# Altium integrated library Analog Devices Data Converters Digital-to-Analog Converters.IntLib: 2231 symbols (part 129 of 181)
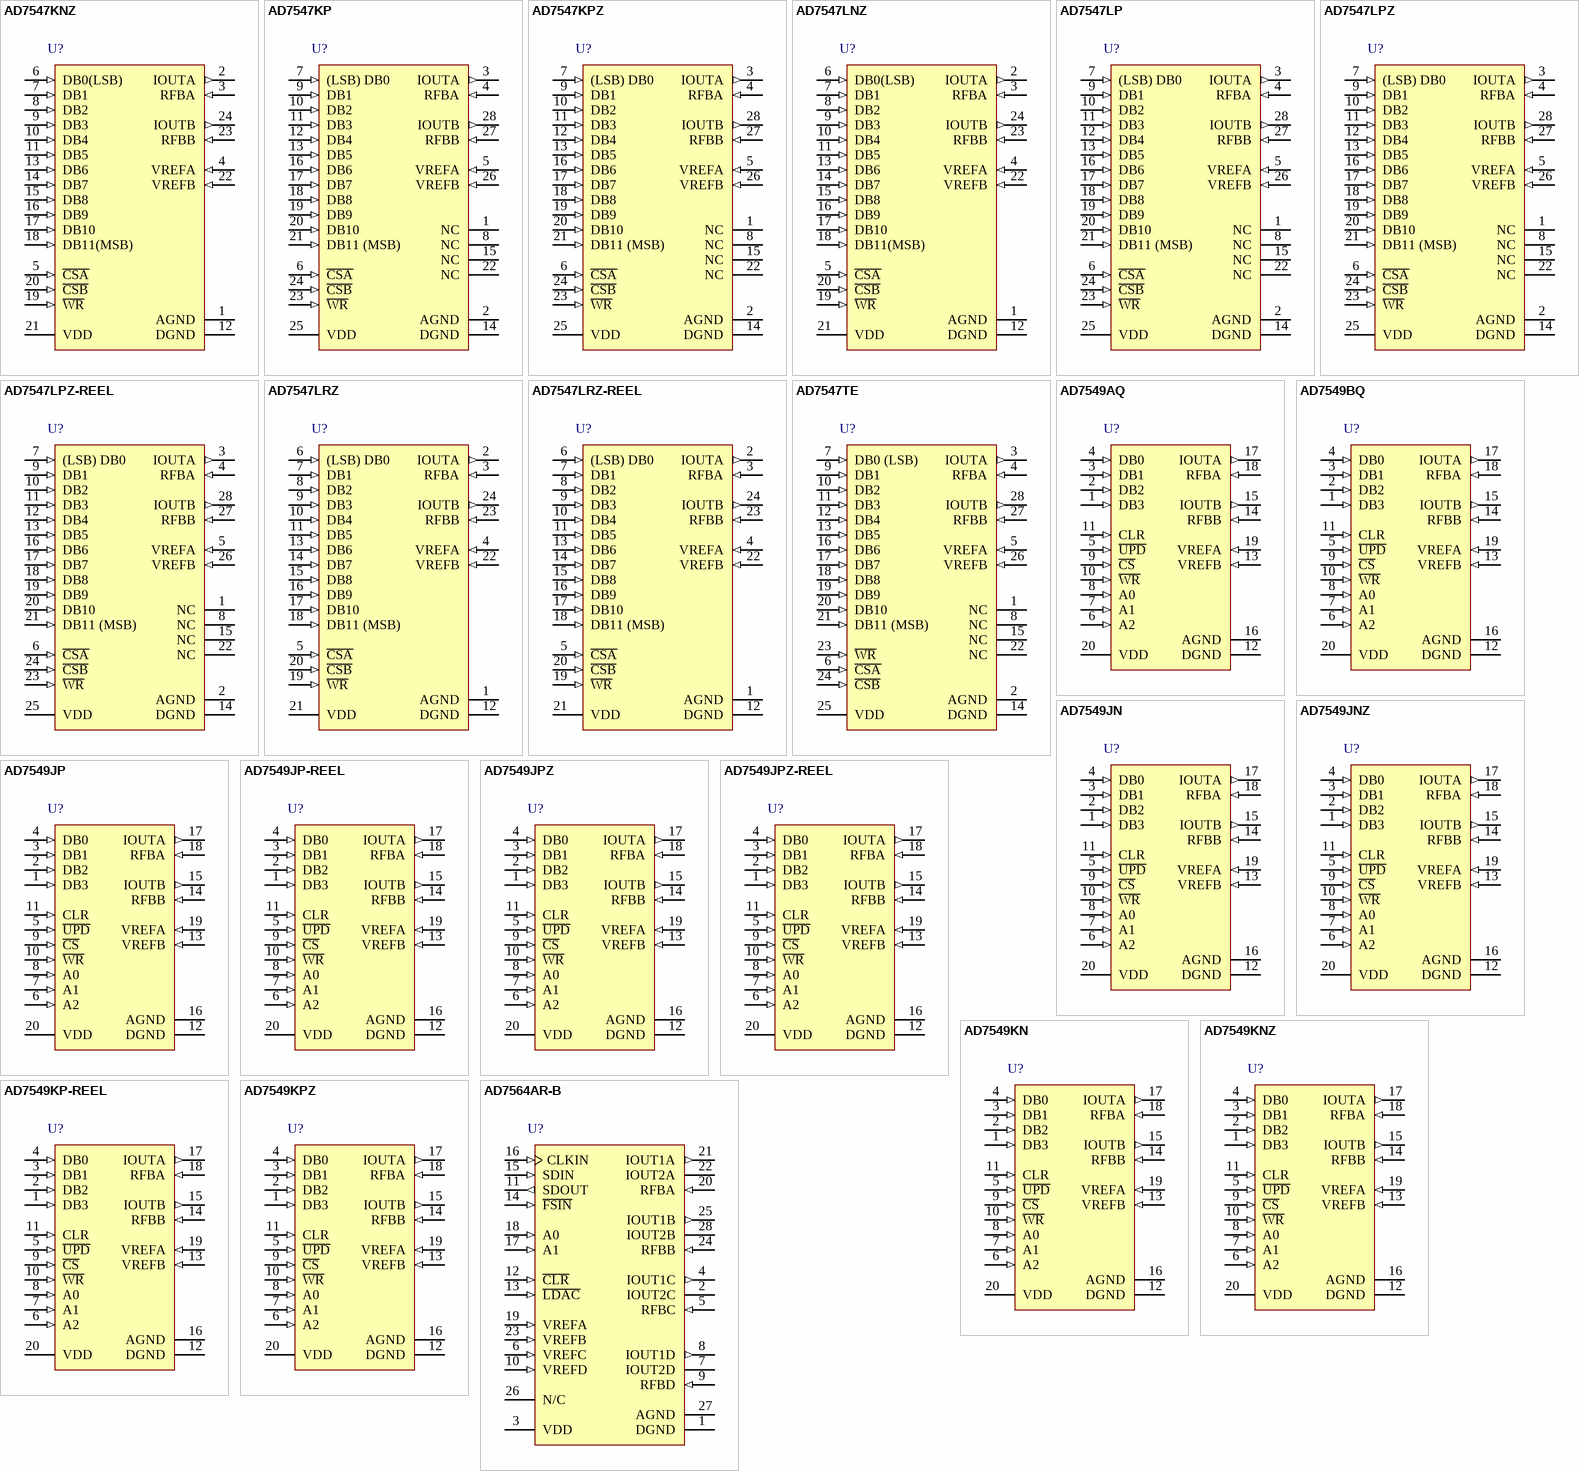
[diagram p242: symbols AD7547KNZ to AD7564AR-B]

## AD7547LRZ
designator U?
Dual 12-Bit LC2MOS Digital-to-Analog Converter with Parallel Loading, 0 to +70 degC, RW-24, Pb-Free, Tube; Generic Part Number: AD7547; Manufacturer: Analog Devices; PartNumber: AD7547LRZ; # DAC Outputs: 2; Max V+: 16.5V; Op Pwr Diss: 30mW; Resolution (Bits): 12; Settling Time: 1.5µs; Single Supply: Yes; DatasheetVersion: Rev.A; PackageVersion: 060706-A; PackageReference: RW-24; PackageDescription: 24-Lead Standard Small Outline Package [SOIC_W]; Supplier 1: Digi-Key; Supplier Part Number 1: AD7547LRZ-ND; Supplier 2: Mouser; Supplier Part Number 2: 584-AD7547LRZ; Packing: Tube; RoHS: Y; Mounting Technology: Surface Mount; Code_JEDEC: MS-013-AD; ComponentLink1Description: Manufacturer URL; ComponentLink1URL: http://www.analog.com/en/index.html; ComponentLink2Description: Datasheet; ComponentLink2URL: http://www.analog.com/static/imported-files/data_sheets/AD7547.pdf; ComponentLink3Description: Package Specification; ComponentLink3URL: http://www.analog.com/static/imported-files/packages/33665150946139RW_24.pdf; ComponentLink4Description: Product URL; ComponentLink4URL: http://www.analog.com/en/digital-to-analog-converters/da-converters/ad7547/products/product.html
footprint RW-24_N (SOIC, 24-Leads, Body 15.4x7.5mm, Pitch 1.27mm, IPC Medium Density)
footprint RW-24_L (SOIC, 24-Leads, Body 15.4x7.5mm, Pitch 1.27mm, IPC High Density)
footprint RW-24_M (SOIC, 24-Leads, Body 15.4x7.5mm, Pitch 1.27mm, IPC Low Density)
pins: 1 AGND (power) "Analog Ground.", 2 IOUTA (out) "Current output terminal of DACA.", 3 RFBA (in) "Feedback resistor for DACA.", 4 VREFA (in) "Reference input to DACA.", 5 ~{CSA} (in) "Chip Select Input for DACA. Active low.", 6 (LSB) DB0 (in) "Data input.", 7 DB1 (in) "Data input.", 8 DB2 (in) "Data input.", 9 DB3 (in) "Data input.", 10 DB4 (in) "Data input.", 11 DB5 (in) "Data input.", 12 DGND (power) "Digital Ground.", 13 DB6 (in) "Data input.", 14 DB7 (in) "Data input.", 15 DB8 (in) "Data input.", 16 DB9 (in) "Data input.", 17 DB10 (in) "Data input.", 18 DB11 (MSB) (in) "Data input.", 19 ~{WR} (in) "Write Input. Data transfer occurs on rising edge of W\R\. See Table I.", 20 ~{CSB} (in) "Chip Select Input for DACB. Active low.", 21 VDD (power) "Power supply input. Nominally +12V to +15V with + / -10% tolerance.", 22 VREFB (in) "Reference input to DACB.", 23 RFBB (in) "Feedback resistor of DACB.", 24 IOUTB (out) "Current output terminal of DACB."

## AD7547LRZ-REEL
designator U?
Dual 12-Bit LC2MOS Digital-to-Analog Converter with Parallel Loading, 0 to +70 degC, RW-24, Pb-Free, Reel; Generic Part Number: AD7547; Manufacturer: Analog Devices; PartNumber: AD7547LRZ-REEL; # DAC Outputs: 2; Max V+: 16.5V; Op Pwr Diss: 30mW; Resolution (Bits): 12; Settling Time: 1.5µs; Single Supply: Yes; DatasheetVersion: Rev.A; PackageVersion: 060706-A; PackageReference: RW-24; PackageDescription: 24-Lead Standard Small Outline Package [SOIC_W]; Supplier 1: Digi-Key; Supplier Part Number 1: AD7547LRZ-REEL-ND; Supplier 2: Mouser; Supplier Part Number 2: 584-AD7547LRZ-R; Packing: Reel; RoHS: Y; Mounting Technology: Surface Mount; Code_JEDEC: MS-013-AD; ComponentLink1Description: Manufacturer URL; ComponentLink1URL: http://www.analog.com/en/index.html; ComponentLink2Description: Datasheet; ComponentLink2URL: http://www.analog.com/static/imported-files/data_sheets/AD7547.pdf; ComponentLink3Description: Package Specification; ComponentLink3URL: http://www.analog.com/static/imported-files/packages/33665150946139RW_24.pdf; ComponentLink4Description: Product URL; ComponentLink4URL: http://www.analog.com/en/digital-to-analog-converters/da-converters/ad7547/products/product.html
footprint RW-24_N (SOIC, 24-Leads, Body 15.4x7.5mm, Pitch 1.27mm, IPC Medium Density)
footprint RW-24_L (SOIC, 24-Leads, Body 15.4x7.5mm, Pitch 1.27mm, IPC High Density)
footprint RW-24_M (SOIC, 24-Leads, Body 15.4x7.5mm, Pitch 1.27mm, IPC Low Density)
pins: 1 AGND (power) "Analog Ground.", 2 IOUTA (out) "Current output terminal of DACA.", 3 RFBA (in) "Feedback resistor for DACA.", 4 VREFA (in) "Reference input to DACA.", 5 ~{CSA} (in) "Chip Select Input for DACA. Active low.", 6 (LSB) DB0 (in) "Data input.", 7 DB1 (in) "Data input.", 8 DB2 (in) "Data input.", 9 DB3 (in) "Data input.", 10 DB4 (in) "Data input.", 11 DB5 (in) "Data input.", 12 DGND (power) "Digital Ground.", 13 DB6 (in) "Data input.", 14 DB7 (in) "Data input.", 15 DB8 (in) "Data input.", 16 DB9 (in) "Data input.", 17 DB10 (in) "Data input.", 18 DB11 (MSB) (in) "Data input.", 19 ~{WR} (in) "Write Input. Data transfer occurs on rising edge of W\R\. See Table I.", 20 ~{CSB} (in) "Chip Select Input for DACB. Active low.", 21 VDD (power) "Power supply input. Nominally +12V to +15V with + / -10% tolerance.", 22 VREFB (in) "Reference input to DACB.", 23 RFBB (in) "Feedback resistor of DACB.", 24 IOUTB (out) "Current output terminal of DACB."

## AD7547TE
designator U?
Dual 12-Bit LC2MOS Digital-to-Analog Converter with Parallel Loading, -55 to +125 degC, E-28-1, Tube; Generic Part Number: AD7547; Manufacturer: Analog Devices; PartNumber: AD7547TE; # DAC Outputs: 2; Max V+: 16.5V; Op Pwr Diss: 30mW; Resolution (Bits): 12; Settling Time: 1.5µs; Single Supply: Yes; DatasheetVersion: Rev.A; PackageVersion: 022106-A; PackageReference: E-28-1; PackageDescription: 28-Terminal Ceramic Leadless Chip Carrier [LCC]; Supplier 1: Mouser; Supplier Part Number 1: N/A; Packing: Tube; RoHS: N; Mounting Technology: Surface Mount; ComponentLink1Description: Manufacturer URL; ComponentLink1URL: http://www.analog.com/en/index.html; ComponentLink2Description: Datasheet; ComponentLink2URL: http://www.analog.com/static/imported-files/data_sheets/AD7547.pdf; ComponentLink3Description: Package Specification; ComponentLink3URL: http://www.analog.com/static/imported-files/packages/PKG_PDF/LCC(E)/E_28_1.pdf; ComponentLink4Description: Product URL; ComponentLink4URL: http://www.analog.com/en/digital-to-analog-converters/da-converters/ad7547/products/product.html
footprint E-28-1_N (Leadless Chip Carrier, 28-Leads, Body 11.4x11.4mm, Pitch 1.27mm, IPC Medium Density)
footprint E-28-1_L (Leadless Chip Carrier, 28-Leads, Body 11.4x11.4mm, Pitch 1.27mm, IPC High Density)
footprint E-28-1_M (Leadless Chip Carrier, 28-Leads, Body 11.4x11.4mm, Pitch 1.27mm, IPC Low Density)
pins: 1 NC "No connect.", 2 AGND (power) "Analog Ground.", 3 IOUTA (out) "Current output terminal of DACA.", 4 RFBA (in) "Feedback resistor for DACA.", 5 VREFA (in) "Reference input to DACA.", 6 ~{CSA} (in) "Chip Select Input for DACA.Active low.", 7 DB0 (LSB) (in) "Data input.", 8 NC "No connect.", 9 DB1 (in) "Data input.", 10 DB2 (in) "Data input.", 11 DB3 (in) "Data input.", 12 DB4 (in) "Data input.", 13 DB5 (in) "Data input.", 14 DGND (power) "Digital Ground.", 15 NC "No connect.", 16 DB6 (in) "Data input.", 17 DB7 (in) "Data input.", 18 DB8 (in) "Data input.", 19 DB9 (in) "Data input.", 20 DB10 (in) "Data input.", 21 DB11 (MSB) (in) "Data input.", 22 NC "No connect.", 23 ~{WR} (in) "Write input.Data transfer occurs on rising edge of W\R\.", 24 ~{CSB} (in) "Chip Select Input for DACB.Active low.", 25 VDD (power) "Power supply input.Nominally +12V to +15V with +/- 10% tolerance.", 26 VREFB (in) "Reference input to DACB.", 27 RFBB (in) "Feedback resistor of DACB.", 28 IOUTB (out) "Current output terminal of DACB."

## AD7549AQ
designator U?
Dual 12-Bit uP-Compatible Digital-to-Analog Converter, -40 to +85 degC, Q-20, Tube; Generic Part Number: AD7549; Manufacturer: Analog Devices; PartNumber: AD7549AQ; # DAC Outputs: 2; Max V+: 15.75V; Op Pwr Diss: 75mW; Resolution (Bits): 12; Settling Time: 1.5µs; Single Supply: Yes; DatasheetVersion: Rev.A; PackageVersion: Dec-2004; PackageReference: Q-20; PackageDescription: 20-Lead Ceramic Dual In-Line Package [CERDIP]; Supplier 1: Digi-Key; Supplier Part Number 1: AD7549AQ-ND; Supplier 2: Mouser; Supplier Part Number 2: 584-AD7549AQ; Packing: Tube; RoHS: N; Mounting Technology: Through Hole; ComponentLink1Description: Manufacturer URL; ComponentLink1URL: http://www.analog.com/en/index.html; ComponentLink2Description: Datasheet; ComponentLink2URL: http://www.analog.com/static/imported-files/data_sheets/AD7549.pdf; ComponentLink3Description: Package Specification; ComponentLink3URL: http://www.analog.com/static/imported-files/packages/50516416473314Q_20.pdf; ComponentLink4Description: Product URL; ComponentLink4URL: http://www.analog.com/en/digital-to-analog-converters/da-converters/ad7549/products/product.html
footprint Q-20 (DIP, 20-Leads, Row Spacing 7.62mm, Pitch 2.54mm, Body 25.9x6.7mm)
pins: 1 DB3 (in) "Data Bit 3, Data Bit 7 or Data Bit 11(MSB)", 2 DB2 (in) "Data Bit 2, Data Bit 6 or Data Bit 10.", 3 DB1 (in) "Data Bit 1, Data Bit 5 or Data Bit 9.", 4 DB0 (in) "Data Bit 0, Data Bit 4 or Data Bit 8.", 5 ~{UPD} (in) "Updates DAC Registers from 4-bit input registers. DAC A and DAC B both updated simultaneously.", 6 A2 (in) "Address line 2.", 7 A1 (in) "Address line 1.", 8 A0 (in) "Address line 0.", 9 ~{CS} (in) "Chip Select Input. Active low.", 10 ~{WR} (in) "Write Input. Active low.", 11 CLR (in) "Clear Input. Active High. Clears all registers.", 12 DGND (power) "Digital Ground.", 13 VREFB (in) "Voltage reference input to DAC B.", 14 RFBB (in) "Feedback resistor of DAC B.", 15 IOUTB (out) "Current output terminal of DAC B.", 16 AGND (power) "Analog ground.", 17 IOUTA (out) "Current output terminal of DAC A.", 18 RFBA (in) "Feedback resistor of DAC A.", 19 VREFA (in) "Voltage reference input to DAC A.", 20 VDD (power) "+15 V supply input."

## AD7549BQ
designator U?
Dual 12-Bit uP-Compatible Digital-to-Analog Converter, -40 to +85 degC, Q-20, Tube; Generic Part Number: AD7549; Manufacturer: Analog Devices; PartNumber: AD7549BQ; # DAC Outputs: 2; Max V+: 15.75V; Op Pwr Diss: 75mW; Resolution (Bits): 12; Settling Time: 1.5µs; Single Supply: Yes; DatasheetVersion: Rev.A; PackageVersion: Dec-2004; PackageReference: Q-20; PackageDescription: 20-Lead Ceramic Dual In-Line Package [CERDIP]; Supplier 1: Digi-Key; Supplier Part Number 1: AD7549BQ-ND; Supplier 2: Mouser; Supplier Part Number 2: 584-AD7549BQ; Packing: Tube; RoHS: N; Mounting Technology: Through Hole; ComponentLink1Description: Manufacturer URL; ComponentLink1URL: http://www.analog.com/en/index.html; ComponentLink2Description: Datasheet; ComponentLink2URL: http://www.analog.com/static/imported-files/data_sheets/AD7549.pdf; ComponentLink3Description: Package Specification; ComponentLink3URL: http://www.analog.com/static/imported-files/packages/50516416473314Q_20.pdf; ComponentLink4Description: Product URL; ComponentLink4URL: http://www.analog.com/en/digital-to-analog-converters/da-converters/ad7549/products/product.html
footprint Q-20 (DIP, 20-Leads, Row Spacing 7.62mm, Pitch 2.54mm, Body 25.9x6.7mm)
pins: 1 DB3 (in) "Data Bit 3, Data Bit 7 or Data Bit 11(MSB)", 2 DB2 (in) "Data Bit 2, Data Bit 6 or Data Bit 10.", 3 DB1 (in) "Data Bit 1, Data Bit 5 or Data Bit 9.", 4 DB0 (in) "Data Bit 0, Data Bit 4 or Data Bit 8.", 5 ~{UPD} (in) "Updates DAC Registers from 4-bit input registers. DAC A and DAC B both updated simultaneously.", 6 A2 (in) "Address line 2.", 7 A1 (in) "Address line 1.", 8 A0 (in) "Address line 0.", 9 ~{CS} (in) "Chip Select Input. Active low.", 10 ~{WR} (in) "Write Input. Active low.", 11 CLR (in) "Clear Input. Active High. Clears all registers.", 12 DGND (power) "Digital Ground.", 13 VREFB (in) "Voltage reference input to DAC B.", 14 RFBB (in) "Feedback resistor of DAC B.", 15 IOUTB (out) "Current output terminal of DAC B.", 16 AGND (power) "Analog ground.", 17 IOUTA (out) "Current output terminal of DAC A.", 18 RFBA (in) "Feedback resistor of DAC A.", 19 VREFA (in) "Voltage reference input to DAC A.", 20 VDD (power) "+15 V supply input."

## AD7549JN
designator U?
Dual 12-Bit uP-Compatible Digital-to-Analog Converter, 0 to +70 degC, N-20, Tube; Generic Part Number: AD7549; Manufacturer: Analog Devices; PartNumber: AD7549JN; # DAC Outputs: 2; Max V+: 15.75V; Op Pwr Diss: 75mW; Resolution (Bits): 12; Settling Time: 1.5µs; Single Supply: Yes; DatasheetVersion: Rev.A; PackageVersion: 070706-A; PackageReference: N-20; PackageDescription: 20-Lead Plastic Dual In-Line Package [PDIP] Narrow Body; Supplier 1: Digi-Key; Supplier Part Number 1: AD7549JN-ND; Supplier 2: Mouser; Supplier Part Number 2: 584-AD7549JN; Packing: Tube; RoHS: N; Mounting Technology: Through Hole; Code_JEDEC: MS-001; ComponentLink1Description: Manufacturer URL; ComponentLink1URL: http://www.analog.com/en/index.html; ComponentLink2Description: Datasheet; ComponentLink2URL: http://www.analog.com/static/imported-files/data_sheets/AD7549.pdf; ComponentLink3Description: Package Specification; ComponentLink3URL: http://www.analog.com/static/imported-files/packages/50601349676519N_20.pdf; ComponentLink4Description: Product URL; ComponentLink4URL: http://www.analog.com/en/digital-to-analog-converters/da-converters/ad7549/products/product.html
footprint N-20 (DIP, 20-Leads, Row Spacing 7.62mm, Pitch 2.54mm, Body 25.9x6.6mm)
pins: 1 DB3 (in) "Data Bit 3,Data Bit 7 or Data Bit 11 (MSB)", 2 DB2 (in) "Data Bit 2,Data Bit 6 or Data Bit 10.", 3 DB1 (in) "Data Bit 1,Data Bit 5 or Data Bit 9.", 4 DB0 (in) "Data Bit 0,Data Bit 4 or Data Bit 8.", 5 ~{UPD} (in) "Updates DAC Registers from 4-bit input registers.DAC A and DAC B both updated simultaneously.", 6 A2 (in) "Address line 2.", 7 A1 (in) "Address line 1.", 8 A0 (in) "Address line 0.", 9 ~{CS} (in) "Chip Sekect Input.Active low.", 10 ~{WR} (in) "Write Input.Active low.", 11 CLR (in) "Clear Input.Active High.Clears all registers.", 12 DGND (power) "Digital Ground.", 13 VREFB (in) "Voltage reference input to DAC B.", 14 RFBB (in) "Feedback resistor of DAC B.", 15 IOUTB (out) "Current output terminal of DAC B.", 16 AGND (power) "Analog ground.", 17 IOUTA (out) "Current output terminal of DAC A.", 18 RFBA (in) "Feedback resistor of DAC A.", 19 VREFA (in) "Voltage reference input to DAC A.", 20 VDD (power) "+15 V supply input."

## AD7549JNZ
designator U?
Dual 12-Bit uP-Compatible Digital-to-Analog Converter, 0 to +70 degC, N-20, Pb-Free, Tube; Generic Part Number: AD7549; Manufacturer: Analog Devices; PartNumber: AD7549JNZ; # DAC Outputs: 2; Max V+: 15.75V; Op Pwr Diss: 75mW; Resolution (Bits): 12; Settling Time: 1.5µs; Single Supply: Yes; DatasheetVersion: Rev.A; PackageVersion: 070706-A; PackageReference: N-20; PackageDescription: 20-Lead Plastic Dual In-Line Package [PDIP] Narrow Body; Supplier 1: Digi-Key; Supplier Part Number 1: AD7549JNZ-ND; Supplier 2: Farnell; Supplier Part Number 2: 1079373; Supplier 3: Newark; Supplier Part Number 3: 59K5042; Supplier 4: Mouser; Supplier Part Number 4: 584-AD7549JNZ; Packing: Tube; RoHS: Y; Mounting Technology: Through Hole; Code_JEDEC: MS-001; ComponentLink1Description: Manufacturer URL; ComponentLink1URL: http://www.analog.com/en/index.html; ComponentLink2Description: Datasheet; ComponentLink2URL: http://www.analog.com/static/imported-files/data_sheets/AD7549.pdf; ComponentLink3Description: Package Specification; ComponentLink3URL: http://www.analog.com/static/imported-files/packages/50601349676519N_20.pdf; ComponentLink4Description: Product URL; ComponentLink4URL: http://www.analog.com/en/digital-to-analog-converters/da-converters/ad7549/products/product.html
footprint N-20 (DIP, 20-Leads, Row Spacing 7.62mm, Pitch 2.54mm, Body 25.9x6.6mm)
pins: 1 DB3 (in) "Data Bit 3,Data Bit 7 or Data Bit 11 (MSB)", 2 DB2 (in) "Data Bit 2,Data Bit 6 or Data Bit 10.", 3 DB1 (in) "Data Bit 1,Data Bit 5 or Data Bit 9.", 4 DB0 (in) "Data Bit 0,Data Bit 4 or Data Bit 8.", 5 ~{UPD} (in) "Updates DAC Registers from 4-bit input registers.DAC A and DAC B both updated simultaneously.", 6 A2 (in) "Address line 2.", 7 A1 (in) "Address line 1.", 8 A0 (in) "Address line 0.", 9 ~{CS} (in) "Chip Sekect Input.Active low.", 10 ~{WR} (in) "Write Input.Active low.", 11 CLR (in) "Clear Input.Active High.Clears all registers.", 12 DGND (power) "Digital Ground.", 13 VREFB (in) "Voltage reference input to DAC B.", 14 RFBB (in) "Feedback resistor of DAC B.", 15 IOUTB (out) "Current output terminal of DAC B.", 16 AGND (power) "Analog ground.", 17 IOUTA (out) "Current output terminal of DAC A.", 18 RFBA (in) "Feedback resistor of DAC A.", 19 VREFA (in) "Voltage reference input to DAC A.", 20 VDD (power) "+15 V supply input."

## AD7549JP
designator U?
Dual 12-Bit uP-Compatible Digital-to-Analog Converter, 0 to +70 degC, P-20A, Tube; Generic Part Number: AD7549; Manufacturer: Analog Devices; PartNumber: AD7549JP; # DAC Outputs: 2; Max V+: 15.75V; Op Pwr Diss: 75mW; Resolution (Bits): 12; Settling Time: 1.5µs; Single Supply: Yes; DatasheetVersion: Rev.A; PackageVersion: Nov-2002; PackageReference: P-20A; PackageDescription: 20-Lead Plastic Leaded Chip Carrier [PLCC]; Supplier 1: Digi-Key; Supplier Part Number 1: AD7549JP-ND; Supplier 2: Mouser; Supplier Part Number 2: 584-AD7549JP; Packing: Tube; RoHS: N; Mounting Technology: Surface Mount; Code_JEDEC: MO-047-AA; ComponentLink1Description: Manufacturer URL; ComponentLink1URL: http://www.analog.com/en/index.html; ComponentLink2Description: Datasheet; ComponentLink2URL: http://www.analog.com/static/imported-files/data_sheets/AD7549.pdf; ComponentLink3Description: Package Specification; ComponentLink3URL: http://www.analog.com/static/imported-files/packages/3121431516544404277643669223804694P20A.pdf; ComponentLink4Description: Product URL; ComponentLink4URL: http://www.analog.com/en/digital-to-analog-converters/da-converters/ad7549/products/product.html
footprint P-20A_N (Leaded Chip Carrier, 20-Leads, Body 9x9mm, Pitch 1.27mm, IPC Medium Density)
footprint P-20A_L (Leaded Chip Carrier, 20-Leads, Body 9x9mm, Pitch 1.27mm, IPC High Density)
footprint P-20A_M (Leaded Chip Carrier, 20-Leads, Body 9x9mm, Pitch 1.27mm, IPC Low Density)
pins: 1 DB3 (in) "Data Bit 3, Data Bit 7 or Data Bit 11(MSB)", 2 DB2 (in) "Data Bit 2, Data Bit 6 or Data Bit 10.", 3 DB1 (in) "Data Bit 1, Data Bit 5 or Data Bit 9.", 4 DB0 (in) "Data Bit 0, Data Bit 4 or Data Bit 8.", 5 ~{UPD} (in) "Updates DAC Registers from 4-bit input registers. DAC A and DAC B both updated simultaneously.", 6 A2 (in) "Address line 2.", 7 A1 (in) "Address line 1.", 8 A0 (in) "Address line 0.", 9 ~{CS} (in) "Chip Select Input. Active low.", 10 ~{WR} (in) "Write Input. Active low.", 11 CLR (in) "Clear Input. Active High. Clears all registers.", 12 DGND (power) "Digital Ground.", 13 VREFB (in) "Voltage reference input to DAC B.", 14 RFBB (in) "Feedback resistor of DAC B.", 15 IOUTB (out) "Current output terminal of DAC B.", 16 AGND (power) "Analog ground.", 17 IOUTA (out) "Current output terminal of DAC A.", 18 RFBA (in) "Feedback resistor of DAC A.", 19 VREFA (in) "Voltage reference input to DAC A.", 20 VDD (power) "+15 V supply input."

## AD7549JP-REEL
designator U?
Dual 12-Bit uP-Compatible Digital-to-Analog Converter, 0 to +70 degC, P-20A, Reel; Generic Part Number: AD7549; Manufacturer: Analog Devices; PartNumber: AD7549JP-REEL; # DAC Outputs: 2; Max V+: 15.75V; Op Pwr Diss: 75mW; Resolution (Bits): 12; Settling Time: 1.5µs; Single Supply: Yes; DatasheetVersion: Rev.A; PackageVersion: Nov-2002; PackageReference: P-20A; PackageDescription: 20-Lead Plastic Leaded Chip Carrier [PLCC]; Supplier 1: Mouser; Supplier Part Number 1: N/A; Packing: Reel; RoHS: N; Mounting Technology: Surface Mount; Code_JEDEC: MO-047-AA; ComponentLink1Description: Manufacturer URL; ComponentLink1URL: http://www.analog.com/en/index.html; ComponentLink2Description: Datasheet; ComponentLink2URL: http://www.analog.com/static/imported-files/data_sheets/AD7549.pdf; ComponentLink3Description: Package Specification; ComponentLink3URL: http://www.analog.com/static/imported-files/packages/3121431516544404277643669223804694P20A.pdf; ComponentLink4Description: Product URL; ComponentLink4URL: http://www.analog.com/en/digital-to-analog-converters/da-converters/ad7549/products/product.html
footprint P-20A_N (Leaded Chip Carrier, 20-Leads, Body 9x9mm, Pitch 1.27mm, IPC Medium Density)
footprint P-20A_L (Leaded Chip Carrier, 20-Leads, Body 9x9mm, Pitch 1.27mm, IPC High Density)
footprint P-20A_M (Leaded Chip Carrier, 20-Leads, Body 9x9mm, Pitch 1.27mm, IPC Low Density)
pins: 1 DB3 (in) "Data Bit 3, Data Bit 7 or Data Bit 11(MSB)", 2 DB2 (in) "Data Bit 2, Data Bit 6 or Data Bit 10.", 3 DB1 (in) "Data Bit 1, Data Bit 5 or Data Bit 9.", 4 DB0 (in) "Data Bit 0, Data Bit 4 or Data Bit 8.", 5 ~{UPD} (in) "Updates DAC Registers from 4-bit input registers. DAC A and DAC B both updated simultaneously.", 6 A2 (in) "Address line 2.", 7 A1 (in) "Address line 1.", 8 A0 (in) "Address line 0.", 9 ~{CS} (in) "Chip Select Input. Active low.", 10 ~{WR} (in) "Write Input. Active low.", 11 CLR (in) "Clear Input. Active High. Clears all registers.", 12 DGND (power) "Digital Ground.", 13 VREFB (in) "Voltage reference input to DAC B.", 14 RFBB (in) "Feedback resistor of DAC B.", 15 IOUTB (out) "Current output terminal of DAC B.", 16 AGND (power) "Analog ground.", 17 IOUTA (out) "Current output terminal of DAC A.", 18 RFBA (in) "Feedback resistor of DAC A.", 19 VREFA (in) "Voltage reference input to DAC A.", 20 VDD (power) "+15 V supply input."

## AD7549JPZ
designator U?
Dual 12-Bit uP-Compatible Digital-to-Analog Converter, 0 to +70 degC, P-20A, Pb-Free, Tube; Generic Part Number: AD7549; Manufacturer: Analog Devices; PartNumber: AD7549JPZ; # DAC Outputs: 2; Max V+: 15.75V; Op Pwr Diss: 75mW; Resolution (Bits): 12; Settling Time: 1.5µs; Single Supply: Yes; DatasheetVersion: Rev.A; PackageVersion: Nov-2002; PackageReference: P-20A; PackageDescription: 20-Lead Plastic Leaded Chip Carrier [PLCC]; Supplier 1: Digi-Key; Supplier Part Number 1: AD7549JPZ-ND; Supplier 2: Newark; Supplier Part Number 2: 59K5043; Supplier 3: Mouser; Supplier Part Number 3: 584-AD7549JPZ; Packing: Tube; RoHS: Y; Mounting Technology: Surface Mount; Code_JEDEC: MO-047-AA; ComponentLink1Description: Manufacturer URL; ComponentLink1URL: http://www.analog.com/en/index.html; ComponentLink2Description: Datasheet; ComponentLink2URL: http://www.analog.com/static/imported-files/data_sheets/AD7549.pdf; ComponentLink3Description: Package Specification; ComponentLink3URL: http://www.analog.com/static/imported-files/packages/3121431516544404277643669223804694P20A.pdf; ComponentLink4Description: Product URL; ComponentLink4URL: http://www.analog.com/en/digital-to-analog-converters/da-converters/ad7549/products/product.html
footprint P-20A_N (Leaded Chip Carrier, 20-Leads, Body 9x9mm, Pitch 1.27mm, IPC Medium Density)
footprint P-20A_L (Leaded Chip Carrier, 20-Leads, Body 9x9mm, Pitch 1.27mm, IPC High Density)
footprint P-20A_M (Leaded Chip Carrier, 20-Leads, Body 9x9mm, Pitch 1.27mm, IPC Low Density)
pins: 1 DB3 (in) "Data Bit 3, Data Bit 7 or Data Bit 11(MSB)", 2 DB2 (in) "Data Bit 2, Data Bit 6 or Data Bit 10.", 3 DB1 (in) "Data Bit 1, Data Bit 5 or Data Bit 9.", 4 DB0 (in) "Data Bit 0, Data Bit 4 or Data Bit 8.", 5 ~{UPD} (in) "Updates DAC Registers from 4-bit input registers. DAC A and DAC B both updated simultaneously.", 6 A2 (in) "Address line 2.", 7 A1 (in) "Address line 1.", 8 A0 (in) "Address line 0.", 9 ~{CS} (in) "Chip Select Input. Active low.", 10 ~{WR} (in) "Write Input. Active low.", 11 CLR (in) "Clear Input. Active High. Clears all registers.", 12 DGND (power) "Digital Ground.", 13 VREFB (in) "Voltage reference input to DAC B.", 14 RFBB (in) "Feedback resistor of DAC B.", 15 IOUTB (out) "Current output terminal of DAC B.", 16 AGND (power) "Analog ground.", 17 IOUTA (out) "Current output terminal of DAC A.", 18 RFBA (in) "Feedback resistor of DAC A.", 19 VREFA (in) "Voltage reference input to DAC A.", 20 VDD (power) "+15 V supply input."

## AD7549JPZ-REEL
designator U?
Dual 12-Bit uP-Compatible Digital-to-Analog Converter, 0 to +70 degC, P-20A, Pb-Free, Reel; Generic Part Number: AD7549; Manufacturer: Analog Devices; PartNumber: AD7549JPZ-REEL; # DAC Outputs: 2; Max V+: 15.75V; Op Pwr Diss: 75mW; Resolution (Bits): 12; Settling Time: 1.5µs; Single Supply: Yes; DatasheetVersion: Rev.A; PackageVersion: Nov-2002; PackageReference: P-20A; PackageDescription: 20-Lead Plastic Leaded Chip Carrier [PLCC]; Supplier 1: Digi-Key; Supplier Part Number 1: AD7549JPZ-REEL-ND; Supplier 2: Newark; Supplier Part Number 2: 74R5982; Supplier 3: Mouser; Supplier Part Number 3: 584-AD7549JPZ-R; Packing: Reel; RoHS: Y; Mounting Technology: Surface Mount; Code_JEDEC: MO-047-AA; ComponentLink1Description: Manufacturer URL; ComponentLink1URL: http://www.analog.com/en/index.html; ComponentLink2Description: Datasheet; ComponentLink2URL: http://www.analog.com/static/imported-files/data_sheets/AD7549.pdf; ComponentLink3Description: Package Specification; ComponentLink3URL: http://www.analog.com/static/imported-files/packages/3121431516544404277643669223804694P20A.pdf; ComponentLink4Description: Product URL; ComponentLink4URL: http://www.analog.com/en/digital-to-analog-converters/da-converters/ad7549/products/product.html
footprint P-20A_N (Leaded Chip Carrier, 20-Leads, Body 9x9mm, Pitch 1.27mm, IPC Medium Density)
footprint P-20A_L (Leaded Chip Carrier, 20-Leads, Body 9x9mm, Pitch 1.27mm, IPC High Density)
footprint P-20A_M (Leaded Chip Carrier, 20-Leads, Body 9x9mm, Pitch 1.27mm, IPC Low Density)
pins: 1 DB3 (in) "Data Bit 3, Data Bit 7 or Data Bit 11(MSB)", 2 DB2 (in) "Data Bit 2, Data Bit 6 or Data Bit 10.", 3 DB1 (in) "Data Bit 1, Data Bit 5 or Data Bit 9.", 4 DB0 (in) "Data Bit 0, Data Bit 4 or Data Bit 8.", 5 ~{UPD} (in) "Updates DAC Registers from 4-bit input registers. DAC A and DAC B both updated simultaneously.", 6 A2 (in) "Address line 2.", 7 A1 (in) "Address line 1.", 8 A0 (in) "Address line 0.", 9 ~{CS} (in) "Chip Select Input. Active low.", 10 ~{WR} (in) "Write Input. Active low.", 11 CLR (in) "Clear Input. Active High. Clears all registers.", 12 DGND (power) "Digital Ground.", 13 VREFB (in) "Voltage reference input to DAC B.", 14 RFBB (in) "Feedback resistor of DAC B.", 15 IOUTB (out) "Current output terminal of DAC B.", 16 AGND (power) "Analog ground.", 17 IOUTA (out) "Current output terminal of DAC A.", 18 RFBA (in) "Feedback resistor of DAC A.", 19 VREFA (in) "Voltage reference input to DAC A.", 20 VDD (power) "+15 V supply input."

## AD7549KN
designator U?
Dual 12-Bit uP-Compatible Digital-to-Analog Converter, 0 to +70 degC, N-20, Tube; Generic Part Number: AD7549; Manufacturer: Analog Devices; PartNumber: AD7549KN; # DAC Outputs: 2; Max V+: 15.75V; Op Pwr Diss: 75mW; Resolution (Bits): 12; Settling Time: 1.5µs; Single Supply: Yes; DatasheetVersion: Rev.A; PackageVersion: 070706-A; PackageReference: N-20; PackageDescription: 20-Lead Plastic Dual In-Line Package [PDIP] Narrow Body; Supplier 1: Digi-Key; Supplier Part Number 1: AD7549KN-ND; Supplier 2: Mouser; Supplier Part Number 2: 584-AD7549KN; Packing: Tube; RoHS: N; Mounting Technology: Through Hole; Code_JEDEC: MS-001; ComponentLink1Description: Manufacturer URL; ComponentLink1URL: http://www.analog.com/en/index.html; ComponentLink2Description: Datasheet; ComponentLink2URL: http://www.analog.com/static/imported-files/data_sheets/AD7549.pdf; ComponentLink3Description: Package Specification; ComponentLink3URL: http://www.analog.com/static/imported-files/packages/50601349676519N_20.pdf; ComponentLink4Description: Product URL; ComponentLink4URL: http://www.analog.com/en/digital-to-analog-converters/da-converters/ad7549/products/product.html
footprint N-20 (DIP, 20-Leads, Row Spacing 7.62mm, Pitch 2.54mm, Body 25.9x6.6mm)
pins: 1 DB3 (in) "Data Bit 3,Data Bit 7 or Data Bit 11 (MSB)", 2 DB2 (in) "Data Bit 2,Data Bit 6 or Data Bit 10.", 3 DB1 (in) "Data Bit 1,Data Bit 5 or Data Bit 9.", 4 DB0 (in) "Data Bit 0,Data Bit 4 or Data Bit 8.", 5 ~{UPD} (in) "Updates DAC Registers from 4-bit input registers.DAC A and DAC B both updated simultaneously.", 6 A2 (in) "Address line 2.", 7 A1 (in) "Address line 1.", 8 A0 (in) "Address line 0.", 9 ~{CS} (in) "Chip Sekect Input.Active low.", 10 ~{WR} (in) "Write Input.Active low.", 11 CLR (in) "Clear Input.Active High.Clears all registers.", 12 DGND (power) "Digital Ground.", 13 VREFB (in) "Voltage reference input to DAC B.", 14 RFBB (in) "Feedback resistor of DAC B.", 15 IOUTB (out) "Current output terminal of DAC B.", 16 AGND (power) "Analog ground.", 17 IOUTA (out) "Current output terminal of DAC A.", 18 RFBA (in) "Feedback resistor of DAC A.", 19 VREFA (in) "Voltage reference input to DAC A.", 20 VDD (power) "+15 V supply input."

## AD7549KNZ
designator U?
Dual 12-Bit uP-Compatible Digital-to-Analog Converter, 0 to +70 degC, N-20, Pb-Free, Tube; Generic Part Number: AD7549; Manufacturer: Analog Devices; PartNumber: AD7549KNZ; # DAC Outputs: 2; Max V+: 15.75V; Op Pwr Diss: 75mW; Resolution (Bits): 12; Settling Time: 1.5µs; Single Supply: Yes; DatasheetVersion: Rev.A; PackageVersion: 070706-A; PackageReference: N-20; PackageDescription: 20-Lead Plastic Dual In-Line Package [PDIP] Narrow Body; Supplier 1: Digi-Key; Supplier Part Number 1: AD7549KNZ-ND; Supplier 2: Newark; Supplier Part Number 2: 59K5044; Supplier 3: Mouser; Supplier Part Number 3: 584-AD7549KNZ; Packing: Tube; RoHS: Y; Mounting Technology: Through Hole; Code_JEDEC: MS-001; ComponentLink1Description: Manufacturer URL; ComponentLink1URL: http://www.analog.com/en/index.html; ComponentLink2Description: Datasheet; ComponentLink2URL: http://www.analog.com/static/imported-files/data_sheets/AD7549.pdf; ComponentLink3Description: Package Specification; ComponentLink3URL: http://www.analog.com/static/imported-files/packages/50601349676519N_20.pdf; ComponentLink4Description: Product URL; ComponentLink4URL: http://www.analog.com/en/digital-to-analog-converters/da-converters/ad7549/products/product.html
footprint N-20 (DIP, 20-Leads, Row Spacing 7.62mm, Pitch 2.54mm, Body 25.9x6.6mm)
pins: 1 DB3 (in) "Data Bit 3,Data Bit 7 or Data Bit 11 (MSB)", 2 DB2 (in) "Data Bit 2,Data Bit 6 or Data Bit 10.", 3 DB1 (in) "Data Bit 1,Data Bit 5 or Data Bit 9.", 4 DB0 (in) "Data Bit 0,Data Bit 4 or Data Bit 8.", 5 ~{UPD} (in) "Updates DAC Registers from 4-bit input registers.DAC A and DAC B both updated simultaneously.", 6 A2 (in) "Address line 2.", 7 A1 (in) "Address line 1.", 8 A0 (in) "Address line 0.", 9 ~{CS} (in) "Chip Sekect Input.Active low.", 10 ~{WR} (in) "Write Input.Active low.", 11 CLR (in) "Clear Input.Active High.Clears all registers.", 12 DGND (power) "Digital Ground.", 13 VREFB (in) "Voltage reference input to DAC B.", 14 RFBB (in) "Feedback resistor of DAC B.", 15 IOUTB (out) "Current output terminal of DAC B.", 16 AGND (power) "Analog ground.", 17 IOUTA (out) "Current output terminal of DAC A.", 18 RFBA (in) "Feedback resistor of DAC A.", 19 VREFA (in) "Voltage reference input to DAC A.", 20 VDD (power) "+15 V supply input."

## AD7549KP-REEL
designator U?
Dual 12-Bit uP-Compatible Digital-to-Analog Converter, 0 to +70 degC, P-20A, Reel; Generic Part Number: AD7549; Manufacturer: Analog Devices; PartNumber: AD7549KP-REEL; # DAC Outputs: 2; Max V+: 15.75V; Op Pwr Diss: 75mW; Resolution (Bits): 12; Settling Time: 1.5µs; Single Supply: Yes; DatasheetVersion: Rev.A; PackageVersion: Nov-2002; PackageReference: P-20A; PackageDescription: 20-Lead Plastic Leaded Chip Carrier [PLCC]; Supplier 1: Mouser; Supplier Part Number 1: N/A; Packing: Reel; RoHS: N; Mounting Technology: Surface Mount; Code_JEDEC: MO-047-AA; ComponentLink1Description: Manufacturer URL; ComponentLink1URL: http://www.analog.com/en/index.html; ComponentLink2Description: Datasheet; ComponentLink2URL: http://www.analog.com/static/imported-files/data_sheets/AD7549.pdf; ComponentLink3Description: Package Specification; ComponentLink3URL: http://www.analog.com/static/imported-files/packages/3121431516544404277643669223804694P20A.pdf; ComponentLink4Description: Product URL; ComponentLink4URL: http://www.analog.com/en/digital-to-analog-converters/da-converters/ad7549/products/product.html
footprint P-20A_N (Leaded Chip Carrier, 20-Leads, Body 9x9mm, Pitch 1.27mm, IPC Medium Density)
footprint P-20A_L (Leaded Chip Carrier, 20-Leads, Body 9x9mm, Pitch 1.27mm, IPC High Density)
footprint P-20A_M (Leaded Chip Carrier, 20-Leads, Body 9x9mm, Pitch 1.27mm, IPC Low Density)
pins: 1 DB3 (in) "Data Bit 3, Data Bit 7 or Data Bit 11(MSB)", 2 DB2 (in) "Data Bit 2, Data Bit 6 or Data Bit 10.", 3 DB1 (in) "Data Bit 1, Data Bit 5 or Data Bit 9.", 4 DB0 (in) "Data Bit 0, Data Bit 4 or Data Bit 8.", 5 ~{UPD} (in) "Updates DAC Registers from 4-bit input registers. DAC A and DAC B both updated simultaneously.", 6 A2 (in) "Address line 2.", 7 A1 (in) "Address line 1.", 8 A0 (in) "Address line 0.", 9 ~{CS} (in) "Chip Select Input. Active low.", 10 ~{WR} (in) "Write Input. Active low.", 11 CLR (in) "Clear Input. Active High. Clears all registers.", 12 DGND (power) "Digital Ground.", 13 VREFB (in) "Voltage reference input to DAC B.", 14 RFBB (in) "Feedback resistor of DAC B.", 15 IOUTB (out) "Current output terminal of DAC B.", 16 AGND (power) "Analog ground.", 17 IOUTA (out) "Current output terminal of DAC A.", 18 RFBA (in) "Feedback resistor of DAC A.", 19 VREFA (in) "Voltage reference input to DAC A.", 20 VDD (power) "+15 V supply input."

## AD7549KPZ
designator U?
Dual 12-Bit uP-Compatible Digital-to-Analog Converter, 0 to +70 degC, P-20A, Pb-Free, Tube; Generic Part Number: AD7549; Manufacturer: Analog Devices; PartNumber: AD7549KPZ; # DAC Outputs: 2; Max V+: 15.75V; Op Pwr Diss: 75mW; Resolution (Bits): 12; Settling Time: 1.5µs; Single Supply: Yes; DatasheetVersion: Rev.A; PackageVersion: Nov-2002; PackageReference: P-20A; PackageDescription: 20-Lead Plastic Leaded Chip Carrier [PLCC]; Supplier 1: Digi-Key; Supplier Part Number 1: AD7549KPZ-ND; Supplier 2: Mouser; Supplier Part Number 2: 584-AD7549KPZ; Packing: Tube; RoHS: Y; Mounting Technology: Surface Mount; Code_JEDEC: MO-047-AA; ComponentLink1Description: Manufacturer URL; ComponentLink1URL: http://www.analog.com/en/index.html; ComponentLink2Description: Datasheet; ComponentLink2URL: http://www.analog.com/static/imported-files/data_sheets/AD7549.pdf; ComponentLink3Description: Package Specification; ComponentLink3URL: http://www.analog.com/static/imported-files/packages/3121431516544404277643669223804694P20A.pdf; ComponentLink4Description: Product URL; ComponentLink4URL: http://www.analog.com/en/digital-to-analog-converters/da-converters/ad7549/products/product.html
footprint P-20A_N (Leaded Chip Carrier, 20-Leads, Body 9x9mm, Pitch 1.27mm, IPC Medium Density)
footprint P-20A_L (Leaded Chip Carrier, 20-Leads, Body 9x9mm, Pitch 1.27mm, IPC High Density)
footprint P-20A_M (Leaded Chip Carrier, 20-Leads, Body 9x9mm, Pitch 1.27mm, IPC Low Density)
pins: 1 DB3 (in) "Data Bit 3, Data Bit 7 or Data Bit 11(MSB)", 2 DB2 (in) "Data Bit 2, Data Bit 6 or Data Bit 10.", 3 DB1 (in) "Data Bit 1, Data Bit 5 or Data Bit 9.", 4 DB0 (in) "Data Bit 0, Data Bit 4 or Data Bit 8.", 5 ~{UPD} (in) "Updates DAC Registers from 4-bit input registers. DAC A and DAC B both updated simultaneously.", 6 A2 (in) "Address line 2.", 7 A1 (in) "Address line 1.", 8 A0 (in) "Address line 0.", 9 ~{CS} (in) "Chip Select Input. Active low.", 10 ~{WR} (in) "Write Input. Active low.", 11 CLR (in) "Clear Input. Active High. Clears all registers.", 12 DGND (power) "Digital Ground.", 13 VREFB (in) "Voltage reference input to DAC B.", 14 RFBB (in) "Feedback resistor of DAC B.", 15 IOUTB (out) "Current output terminal of DAC B.", 16 AGND (power) "Analog ground.", 17 IOUTA (out) "Current output terminal of DAC A.", 18 RFBA (in) "Feedback resistor of DAC A.", 19 VREFA (in) "Voltage reference input to DAC A.", 20 VDD (power) "+15 V supply input."

## AD7564AR-B
designator U?
Quad 12-Bit Low Power Digital-to-Analog Converter, 3.3 V / 5 V, 0 to 70 degC, RW-28, Tube; Generic Part Number: AD7564; Manufacturer: Analog Devices; PartNumber: AD7564AR-B; # DAC Outputs: 4; Max V+: 5.5V; Op Pwr Diss: 50µW; Resolution (Bits): 12; Settling Time: 550ns; Single Supply: Yes; DatasheetVersion: Rev.B; PackageVersion: 060706-A; PackageReference: RW-28; PackageDescription: 28-Lead Standard Small Outline Package [SOIC_W]; Supplier 1: Digi-Key; Supplier Part Number 1: AD7564AR-B-ND; Supplier 2: Mouser; Supplier Part Number 2: 584-AD7564AR-B; Packing: Tube; RoHS: N; Mounting Technology: Surface Mount; Code_JEDEC: MS-013-AE; ComponentLink1Description: Manufacturer URL; ComponentLink1URL: http://www.analog.com/en/index.html; ComponentLink2Description: Datasheet; ComponentLink2URL: http://www.analog.com/static/imported-files/data_sheets/AD7564.pdf; ComponentLink3Description: Product URL; ComponentLink3URL: http://www.analog.com/en/digital-to-analog-converters/da-converters/ad7564/products/product.html
footprint RW-28_N (SOIC, 28-Leads, Body 17.9x7.5mm, Pitch 1.27mm, IPC Medium Density)
footprint RW-28_L (SOIC, 28-Leads, Body 17.9x7.5mm, Pitch 1.27mm, IPC High Density)
footprint RW-28_M (SOIC, 28-Leads, Body 17.9x7.5mm, Pitch 1.27mm, IPC Low Density)
pins: 1 DGND (power) "Digital Ground.", 2 IOUT2C "IOUT2 terminal for DAC C. This should normally connect to the signal ground of the system.", 3 VDD (power) "Positive power supply. This is +5 V +/- 5%.", 4 IOUT1C (out) "IOUT1 terminal for DAC C.", 5 RFBC (in) "Feedback resistor for DAC C.", 6 VREFC (in) "DAC C reference input.", 7 IOUT2D "IOUT2 terminal for DAC D. This should normally connect to the signal ground of the system.", 8 IOUT1D (out) "IOUT1 terminal for DAC D.", 9 RFBD (in) "Feedback resistor for DAC D.", 10 VREFD (in) "DAC D reference input.", 11 SDOUT (out) "This shift register output allows multiple devices to be connected in a daisy chain configuration.", 12 ~{CLR} (in) "Asynchronous C\L\R\ input. When this input is taken low, all DAC latches are loaded with all 0s.", 13 ~{LDAC} (in) "Asynchronous L\D\A\C\ input. When this input is taken low, all DAC latches are simultaneously updated with the contents of the input latches.", 14 ~{FSIN} (in) "Level-triggered control input (active low). This is the frame synchronization signal for the input data. When F\S\I\N\ goes low, it enables the input shift register, and data is transferred on the falling edges of CLKIN. If (See Datasheet)", 15 SDIN (in) "Serial data input. The device accepts a 16-bit word. DB0 and DB1 are DAC select bits. DB2 and DB3 are device address bits. DB4 to DB15 contain the 12-bit data to be loaded to the selected DAC.", 16 CLKIN (in) "Clock Input. Data is clocked into the input shift register on the falling edges of CLKIN. Add a pull-down resistor on the clock line to avoid timing issues.", 17 A1 (in) "Device address pin. This input in association with A0 gives the device an address. If DB2 and DB3 of the serial input stream do not correspond to this address, the data which follows is ignored and not loaded to any input (See Datasheet)", 18 A0 (in) "Device address pin. This input in association with A1 gives the device an address.", 19 VREFA (in) "DAC A reference input.", 20 RFBA (in) "Feedback resistor for DAC A.", 21 IOUT1A (out) "IOUT1 terminal for DAC A.", 22 IOUT2A "IOUT2 terminal for DAC A. This should normally connect to the signal ground of the system.", 23 VREFB (in) "DAC B reference input.", 24 RFBB (in) "Feedback resistor for DAC B.", 25 IOUT1B (out) "IOUT1 terminal for DAC B.", 26 N/C "No Connect pin.", 27 AGND (power) "This pin connects to the back gates of the current steering switches. It should be connected to the signal ground of the system.", 28 IOUT2B "IOUT2 terminal for DAC B. This should normally connect to the signal ground of the system."

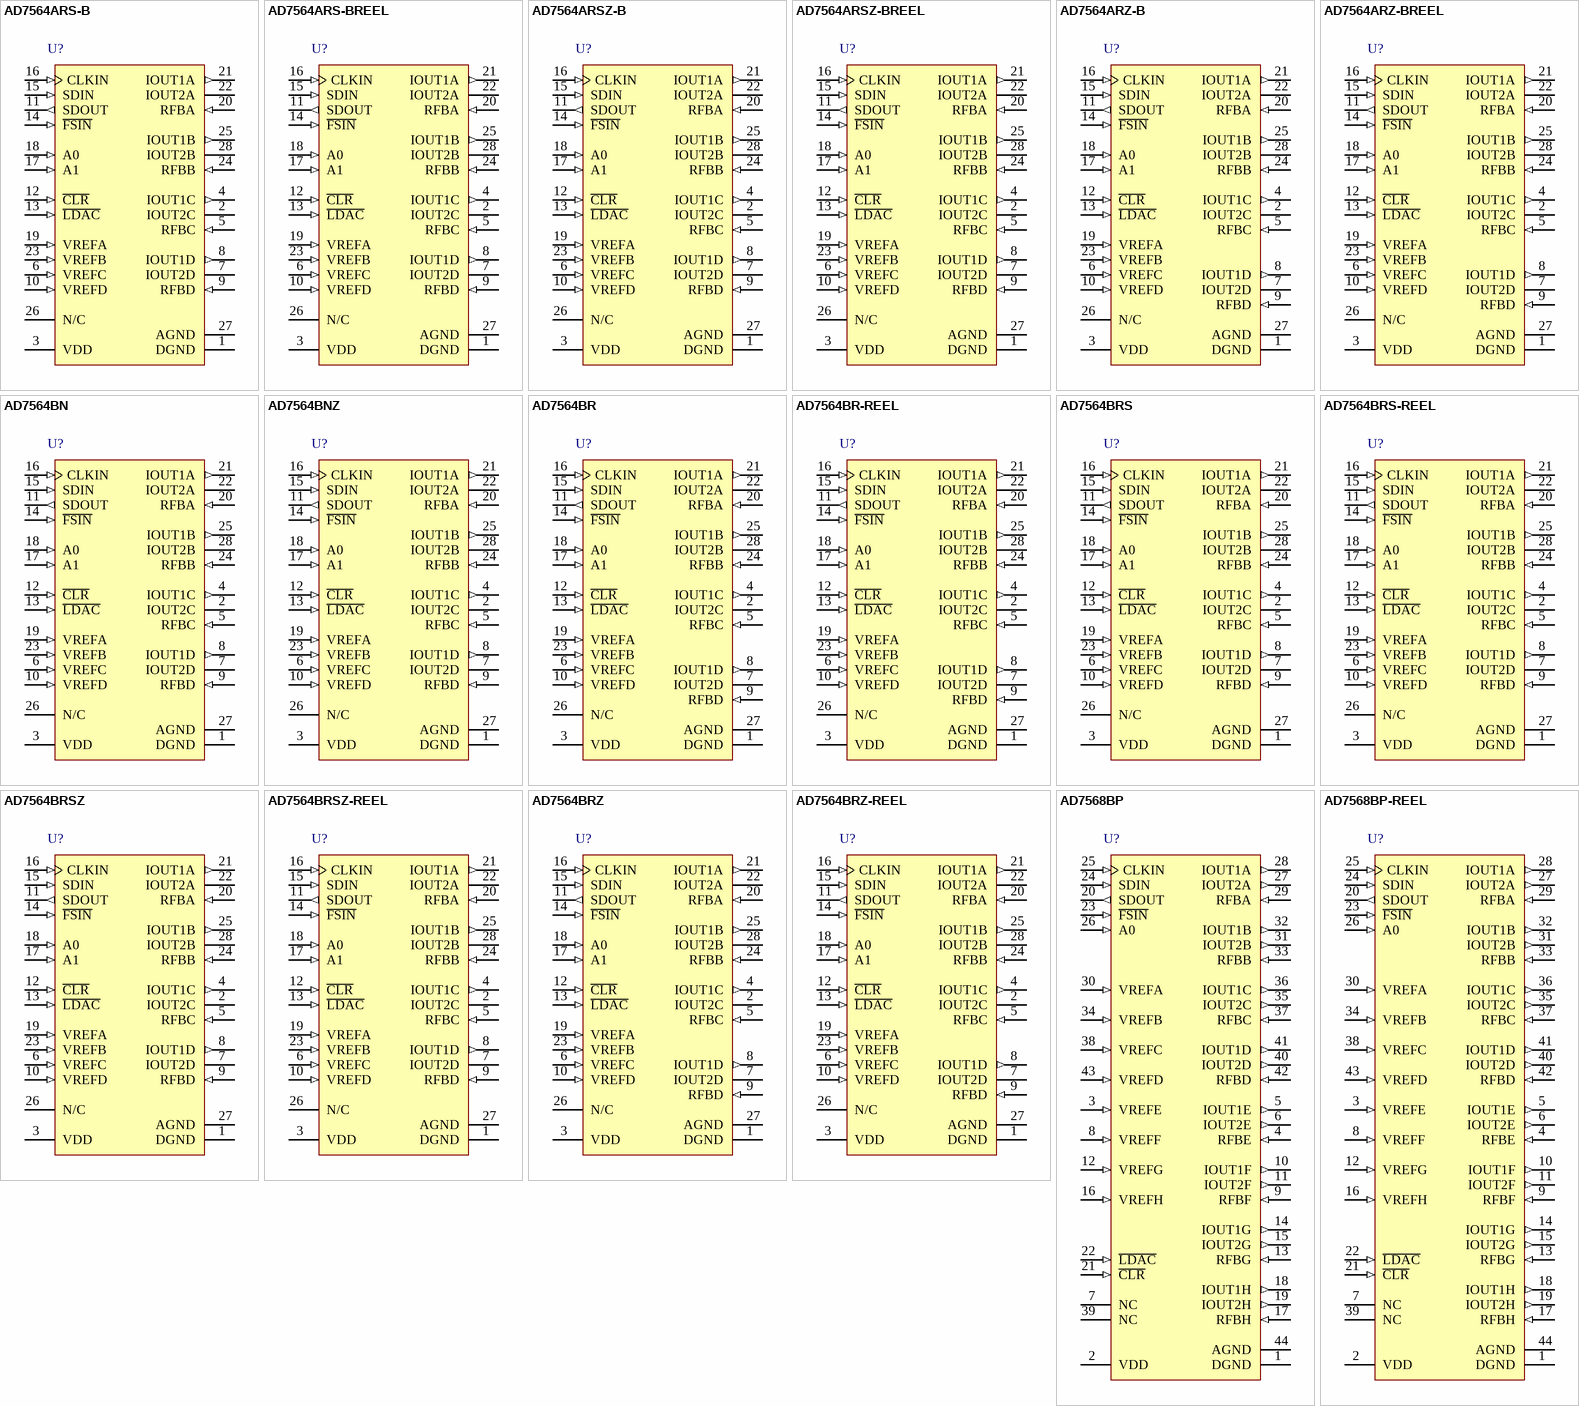
[diagram p71: symbols AD7564ARS-B to AD7568BP-REEL]

## AD7564ARS-B
designator U?
Quad 12-Bit Low Power Digital-to-Analog Converter, 3.3 V / 5 V, -40 to +85 degC, RS-28, Tube; Generic Part Number: AD7564; Manufacturer: Analog Devices; PartNumber: AD7564ARS-B; # DAC Outputs: 4; Max V+: 5.5V; Op Pwr Diss: 50µW; Resolution (Bits): 12; Settling Time: 550ns; Single Supply: Yes; DatasheetVersion: Rev.B; PackageVersion: 060106-A; PackageReference: RS-28; PackageDescription: 28-Lead Shrink Small Outline Package [SSOP]; Supplier 1: Digi-Key; Supplier Part Number 1: AD7564ARS-B-ND; Supplier 2: Mouser; Supplier Part Number 2: 584-AD7564ARS-B; Packing: Tube; RoHS: N; Mounting Technology: Surface Mount; Code_JEDEC: MO-150-AH; ComponentLink1Description: Manufacturer URL; ComponentLink1URL: http://www.analog.com/en/index.html; ComponentLink2Description: Datasheet; ComponentLink2URL: http://www.analog.com/static/imported-files/data_sheets/AD7564.pdf; ComponentLink3Description: Package Specification; ComponentLink3URL: http://www.analog.com/static/imported-files/packages/32122249223724RS_28.pdf; ComponentLink4Description: Product URL; ComponentLink4URL: http://www.analog.com/en/digital-to-analog-converters/da-converters/ad7564/products/product.html
footprint RS-28_N (SOP, 28-Leads, Body 10.2x5.3mm, Pitch 0.65mm, IPC Medium Density)
footprint RS-28_L (SOP, 28-Leads, Body 10.2x5.3mm, Pitch 0.65mm, IPC High Density)
footprint RS-28_M (SOP, 28-Leads, Body 10.2x5.3mm, Pitch 0.65mm, IPC Low Density)
pins: 1 DGND (power) "Digital Ground.", 2 IOUT2C "IOUT2 terminal for DAC C. This should normally connect to the signal ground of the system.", 3 VDD (power) "Positive power supply. This is +5 V +/- 5%.", 4 IOUT1C (out) "IOUT1 terminal for DAC C.", 5 RFBC (in) "Feedback resistor for DAC C.", 6 VREFC (in) "DAC C reference input.", 7 IOUT2D "IOUT2 terminal for DAC D. This should normally connect to the signal ground of the system.", 8 IOUT1D (out) "IOUT1 terminal for DAC D.", 9 RFBD (in) "Feedback resistor for DAC D.", 10 VREFD (in) "DAC D reference input.", 11 SDOUT (out) "This shift register output allows multiple devices to be connected in a daisy chain configuration.", 12 ~{CLR} (in) "Asynchronous C\L\R\ input. When this input is taken low, all DAC latches are loaded with all 0s.", 13 ~{LDAC} (in) "Asynchronous L\D\A\C\ input. When this input is taken low, all DAC latches are simultaneously updated with the contents of the input latches.", 14 ~{FSIN} (in) "Level-triggered control input (active low). This is the frame synchronization signal for the input data. When F\S\I\N\ goes low, it enables the input shift register, and data is transferred on the falling edges of CLKIN. If (See Datasheet)", 15 SDIN (in) "Serial data input. The device accepts a 16-bit word. DB0 and DB1 are DAC select bits. DB2 and DB3 are device address bits. DB4 to DB15 contain the 12-bit data to be loaded to the selected DAC.", 16 CLKIN (in) "Clock Input. Data is clocked into the input shift register on the falling edges of CLKIN. Add a pull-down resistor on the clock line to avoid timing issues.", 17 A1 (in) "Device address pin. This input in association with A0 gives the device an address. If DB2 and DB3 of the serial input stream do not correspond to this address, the data which follows is ignored and not loaded to any input (See Datasheet)", 18 A0 (in) "Device address pin. This input in association with A1 gives the device an address.", 19 VREFA (in) "DAC A reference input.", 20 RFBA (in) "Feedback resistor for DAC A.", 21 IOUT1A (out) "IOUT1 terminal for DAC A.", 22 IOUT2A "IOUT2 terminal for DAC A. This should normally connect to the signal ground of the system.", 23 VREFB (in) "DAC B reference input.", 24 RFBB (in) "Feedback resistor for DAC B.", 25 IOUT1B (out) "IOUT1 terminal for DAC B.", 26 N/C "No Connect pin.", 27 AGND (power) "This pin connects to the back gates of the current steering switches. It should be connected to the signal ground of the system.", 28 IOUT2B "IOUT2 terminal for DAC B. This should normally connect to the signal ground of the system."

## AD7564ARS-BREEL
designator U?
Quad 12-Bit Low Power Digital-to-Analog Converter, 3.3 V / 5 V, -40 to +85 degC, RS-28, Reel; Generic Part Number: AD7564; Manufacturer: Analog Devices; PartNumber: AD7564ARS-BREEL; # DAC Outputs: 4; Max V+: 5.5V; Op Pwr Diss: 50µW; Resolution (Bits): 12; Settling Time: 550ns; Single Supply: Yes; DatasheetVersion: Rev.B; PackageVersion: 060106-A; PackageReference: RS-28; PackageDescription: 28-Lead Shrink Small Outline Package [SSOP]; Supplier 1: Digi-Key; Supplier Part Number 1: AD7564ARS-BREEL-ND; Supplier 2: Mouser; Supplier Part Number 2: 584-AD7564ARS-BR; Packing: Reel; RoHS: N; Mounting Technology: Surface Mount; Code_JEDEC: MO-150-AH; ComponentLink1Description: Manufacturer URL; ComponentLink1URL: http://www.analog.com/en/index.html; ComponentLink2Description: Datasheet; ComponentLink2URL: http://www.analog.com/static/imported-files/data_sheets/AD7564.pdf; ComponentLink3Description: Package Specification; ComponentLink3URL: http://www.analog.com/static/imported-files/packages/32122249223724RS_28.pdf; ComponentLink4Description: Product URL; ComponentLink4URL: http://www.analog.com/en/digital-to-analog-converters/da-converters/ad7564/products/product.html
footprint RS-28_N (SOP, 28-Leads, Body 10.2x5.3mm, Pitch 0.65mm, IPC Medium Density)
footprint RS-28_L (SOP, 28-Leads, Body 10.2x5.3mm, Pitch 0.65mm, IPC High Density)
footprint RS-28_M (SOP, 28-Leads, Body 10.2x5.3mm, Pitch 0.65mm, IPC Low Density)
pins: 1 DGND (power) "Digital Ground.", 2 IOUT2C "IOUT2 terminal for DAC C. This should normally connect to the signal ground of the system.", 3 VDD (power) "Positive power supply. This is +5 V +/- 5%.", 4 IOUT1C (out) "IOUT1 terminal for DAC C.", 5 RFBC (in) "Feedback resistor for DAC C.", 6 VREFC (in) "DAC C reference input.", 7 IOUT2D "IOUT2 terminal for DAC D. This should normally connect to the signal ground of the system.", 8 IOUT1D (out) "IOUT1 terminal for DAC D.", 9 RFBD (in) "Feedback resistor for DAC D.", 10 VREFD (in) "DAC D reference input.", 11 SDOUT (out) "This shift register output allows multiple devices to be connected in a daisy chain configuration.", 12 ~{CLR} (in) "Asynchronous C\L\R\ input. When this input is taken low, all DAC latches are loaded with all 0s.", 13 ~{LDAC} (in) "Asynchronous L\D\A\C\ input. When this input is taken low, all DAC latches are simultaneously updated with the contents of the input latches.", 14 ~{FSIN} (in) "Level-triggered control input (active low). This is the frame synchronization signal for the input data. When F\S\I\N\ goes low, it enables the input shift register, and data is transferred on the falling edges of CLKIN. If (See Datasheet)", 15 SDIN (in) "Serial data input. The device accepts a 16-bit word. DB0 and DB1 are DAC select bits. DB2 and DB3 are device address bits. DB4 to DB15 contain the 12-bit data to be loaded to the selected DAC.", 16 CLKIN (in) "Clock Input. Data is clocked into the input shift register on the falling edges of CLKIN. Add a pull-down resistor on the clock line to avoid timing issues.", 17 A1 (in) "Device address pin. This input in association with A0 gives the device an address. If DB2 and DB3 of the serial input stream do not correspond to this address, the data which follows is ignored and not loaded to any input (See Datasheet)", 18 A0 (in) "Device address pin. This input in association with A1 gives the device an address.", 19 VREFA (in) "DAC A reference input.", 20 RFBA (in) "Feedback resistor for DAC A.", 21 IOUT1A (out) "IOUT1 terminal for DAC A.", 22 IOUT2A "IOUT2 terminal for DAC A. This should normally connect to the signal ground of the system.", 23 VREFB (in) "DAC B reference input.", 24 RFBB (in) "Feedback resistor for DAC B.", 25 IOUT1B (out) "IOUT1 terminal for DAC B.", 26 N/C "No Connect pin.", 27 AGND (power) "This pin connects to the back gates of the current steering switches. It should be connected to the signal ground of the system.", 28 IOUT2B "IOUT2 terminal for DAC B. This should normally connect to the signal ground of the system."